# Altium schematic symbol library IC-Memory.SchLib: 2 symbols
Pins are listed as number, name and electrical type; pins without a type are passive.

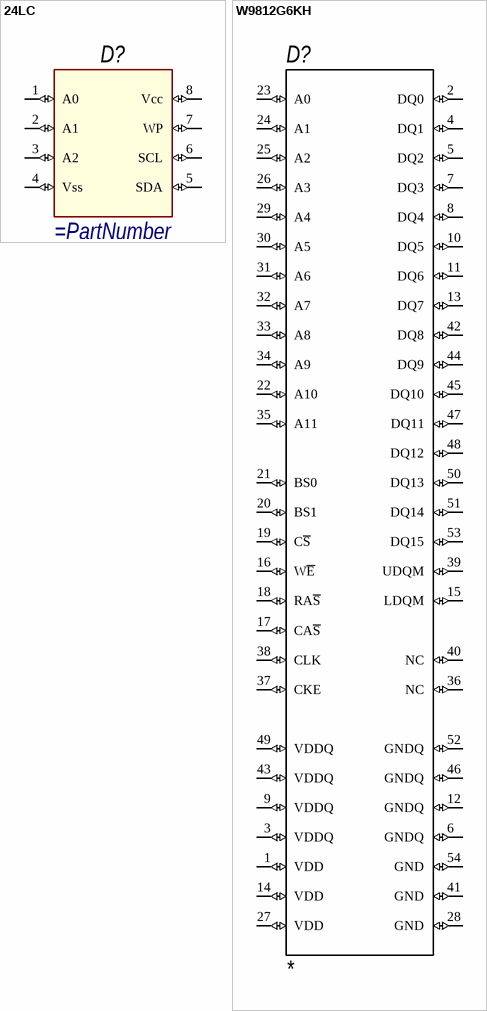
[diagram p0: symbols 24LC to W9812G6KH]

## 24LC
designator D?
pins: 1 A0 (io), 2 A1 (io), 3 A2 (io), 4 Vss (io), 5 SDA (io), 6 SCL (io), 7 WP (io), 8 Vcc (io)

## W9812G6KH
designator D?
pins: 1 VDD (io), 2 DQ0 (io), 3 VDDQ (io), 4 DQ1 (io), 5 DQ2 (io), 6 GNDQ (io), 7 DQ3 (io), 8 DQ4 (io), 9 VDDQ (io), 10 DQ5 (io), 11 DQ6 (io), 12 GNDQ (io), 13 DQ7 (io), 14 VDD (io), 15 LDQM (io), 16 W~{E} (io), 17 CA~{S} (io), 18 RA~{S} (io), 19 C~{S} (io), 20 BS1 (io), 21 BS0 (io), 22 A10 (io), 23 A0 (io), 24 A1 (io), 25 A2 (io), 26 A3 (io), 27 VDD (io), 28 GND (io), 29 A4 (io), 30 A5 (io), 31 A6 (io), 32 A7 (io), 33 A8 (io), 34 A9 (io), 35 A11 (io), 36 NC (io), 37 CKE (io), 38 CLK (io), 39 UDQM (io), 40 NC (io), 41 GND (io), 42 DQ8 (io), 43 VDDQ (io), 44 DQ9 (io), 45 DQ10 (io), 46 GNDQ (io), 47 DQ11 (io), 48 DQ12 (io), 49 VDDQ (io), 50 DQ13 (io), 51 DQ14 (io), 52 GNDQ (io), 53 DQ15 (io), 54 GND (io)